# Altium schematic symbol library IP6525T.Schlib: 1 symbol
Pins are listed as number, name and electrical type; pins without a type are passive.

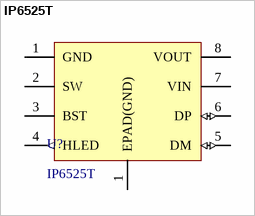
[diagram p0: symbol IP6525T]

## IP6525T
designator U?
18W OUTPUT STEP-DOWN CONVERTER with FAST CHARGE PROTOCOLS (DCP/QC2.0/QC3.0 FCP/AFC)
footprint ESOP8 (SOP with EPAD)
pins: 1 GND (power), 1 EPAD(GND) (power), 2 SW, 3 BST, 4 HLED (out), 5 DM (io), 6 DP (io), 7 VIN (power), 8 VOUT